# EAGLE library part JETSON-TX2 (library FaBo-Connetor)
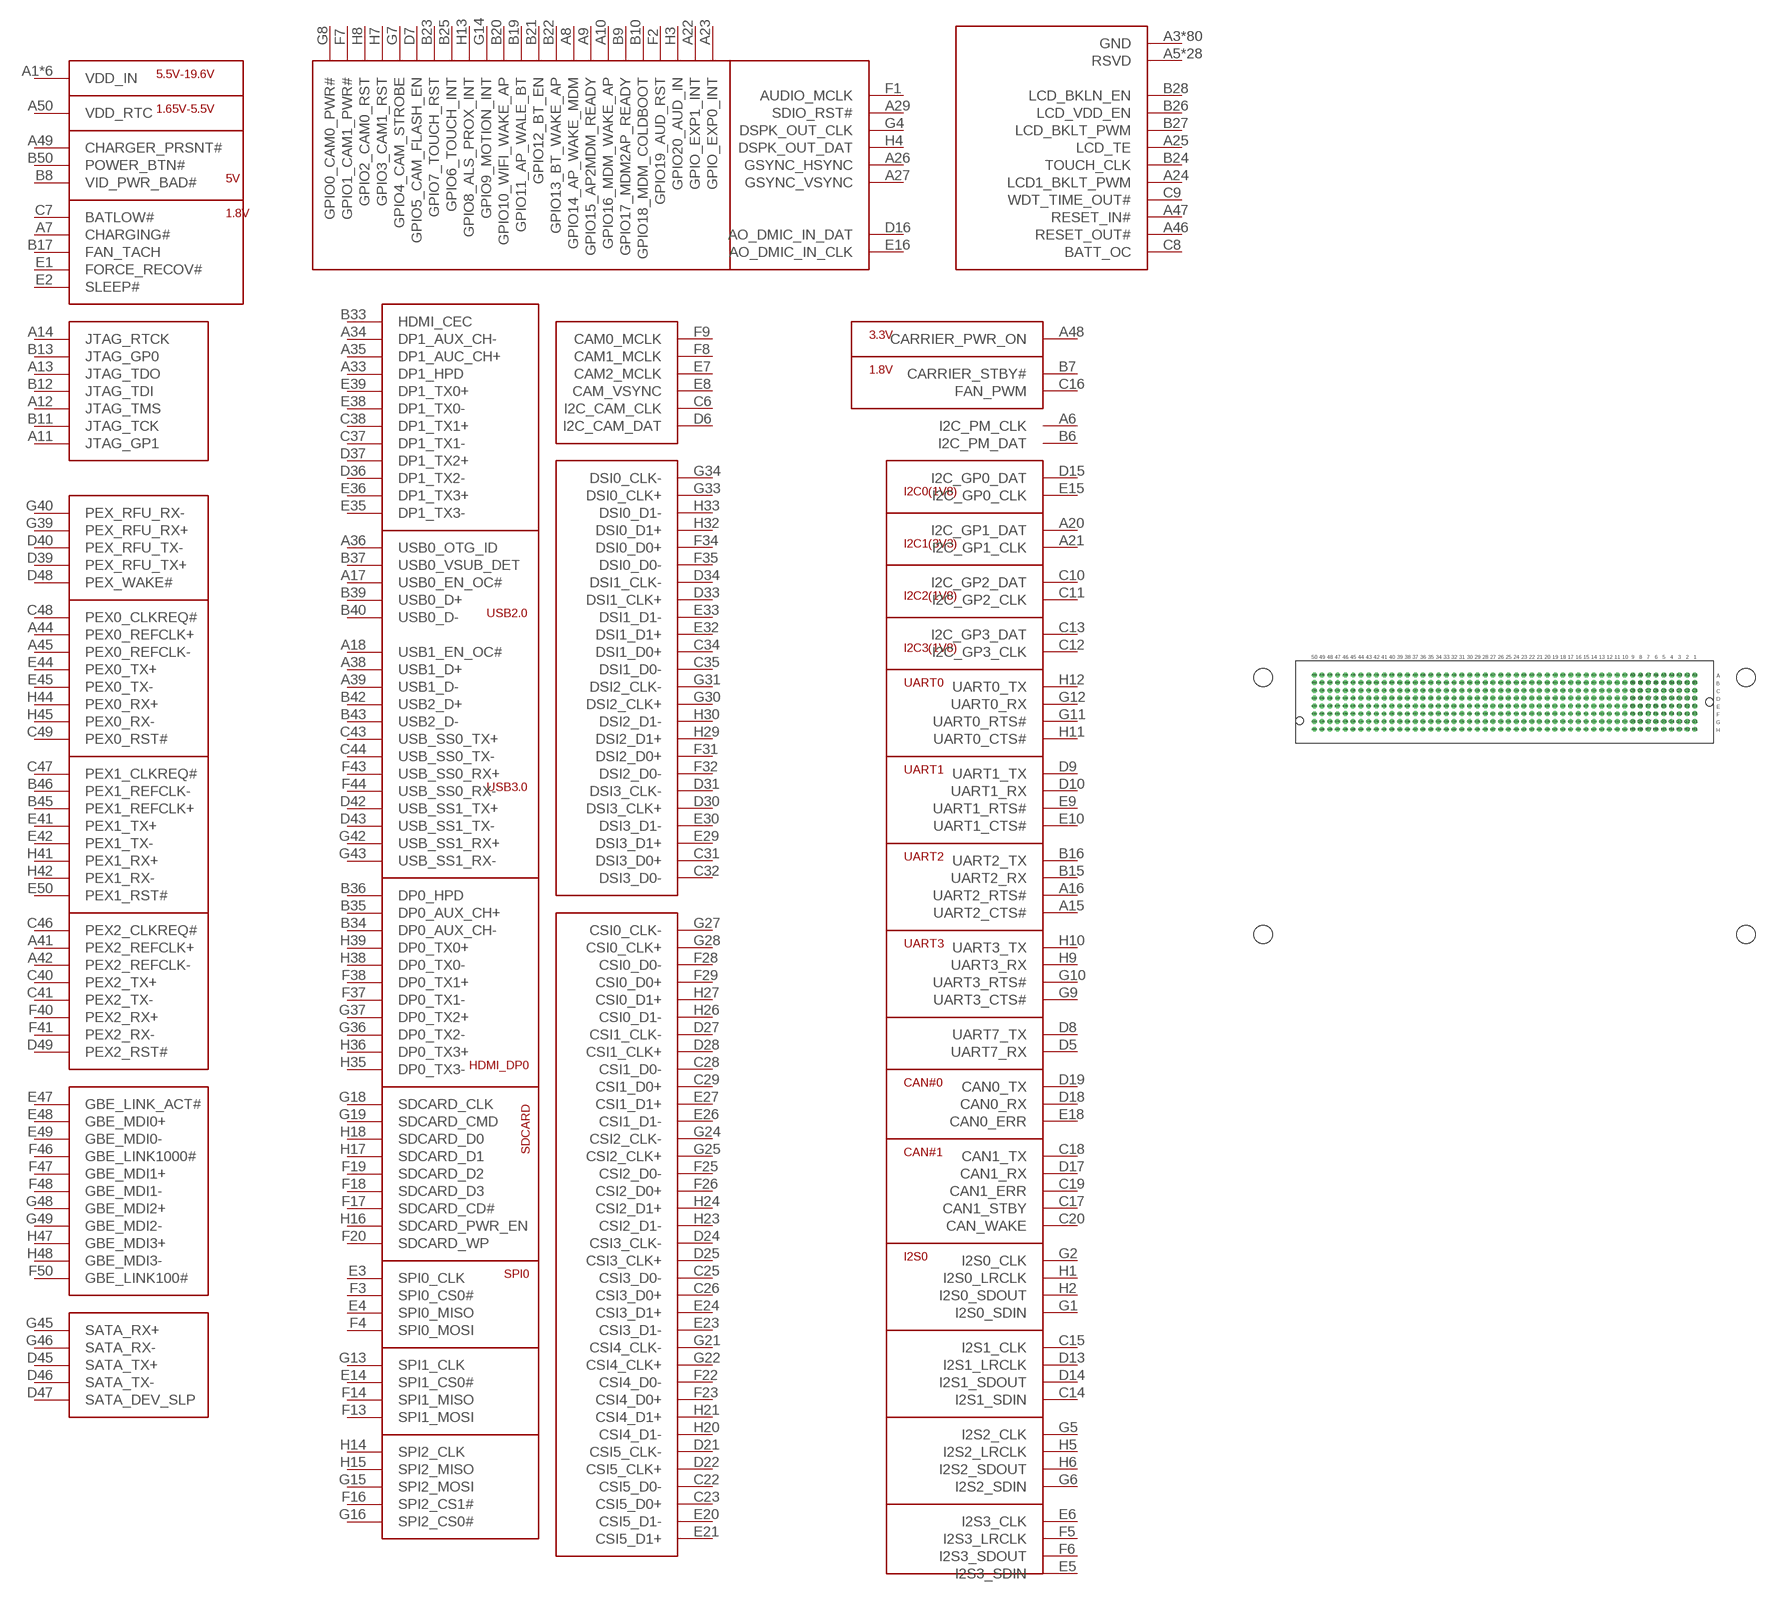
[diagram p0: symbol with the pads of SEAM-50-02.0-S-08-2-A-K-TR-ND; footprint SEAM-50-02.0-S-08-2-A-K-TR-ND]

Designator prefix CN

## JETSON-TX2  [SEAM-50-02.0-S-08-2-A-K-TR-ND]
A1  VDD_IN
A2  VDD_IN
A3  GND
A4  GND
A5  RSVD
A6  I2C_PM_CLK
A7  CHARGING#
A8  GPIO14_AP_WAKE_MDM
A9  GPIO15_AP2MDM_READY
A10  GPIO16_MDM_WAKE_AP
A11  JTAG_GP1
A12  JTAG_TMS
A13  JTAG_TDO
A14  JTAG_RTCK
A15  UART2_CTS#
A16  UART2_RTS#
A17  USB0_EN_OC#
A18  USB1_EN_OC#
A19  RSVD
A20  I2C_GP1_DAT
A21  I2C_GP1_CLK
A22  GPIO_EXP1_INT
A23  GPIO_EXP0_INT
A24  LCD1_BKLT_PWM
A25  LCD_TE
A26  GSYNC_HSYNC
A27  GSYNC_VSYNC
A28  GND
A29  SDIO_RST#
A30  RSVD
A31  RSVD
A32  RSVD
A33  DP1_HPD
A34  DP1_AUX_CH-
A35  DP1_AUC_CH+
A36  USB0_OTG_ID
A37  GND
A38  USB1_D+
A39  USB1_D-
A40  GND
A41  PEX2_REFCLK+
A42  PEX2_REFCLK-
A43  GND
A44  PEX0_REFCLK+
A45  PEX0_REFCLK-
A46  RESET_OUT#
A47  RESET_IN#
A48  CARRIER_PWR_ON
A49  CHARGER_PRSNT#
A50  VDD_RTC
B1  VDD_IN
B2  VDD_IN
B3  GND
B4  GND
B5  RSVD
B6  I2C_PM_DAT
B7  CARRIER_STBY#
B8  VID_PWR_BAD#
B9  GPIO17_MDM2AP_READY
B10  GPIO18_MDM_COLDBOOT
B11  JTAG_TCK
B12  JTAG_TDI
B13  JTAG_GP0
B14  GND
B15  UART2_RX
B16  UART2_TX
B17  FAN_TACH
B18  RSVD
B19  GPIO11_AP_WALE_BT
B20  GPIO10_WIFI_WAKE_AP
B21  GPIO12_BT_EN
B22  GPIO13_BT_WAKE_AP
B23  GPIO7_TOUCH_RST
B24  TOUCH_CLK
B25  GPIO6_TOUCH_INT
B26  LCD_VDD_EN
B27  LCD_BKLT_PWM
B28  LCD_BKLN_EN
B29  RSVD
B30  RSVD
B31  GND
B32  RSVD
B33  HDMI_CEC
B34  DP0_AUX_CH-
B35  DP0_AUX_CH+
B36  DP0_HPD
B37  USB0_VSUB_DET
B38  GND
B39  USB0_D+
B40  USB0_D-
B41  GND
B42  USB2_D+
B43  USB2_D-
B44  GND
B45  PEX1_REFCLK+
B46  PEX1_REFCLK-
B47  GND
B48  RSVD
B49  RSVD
B50  POWER_BTN#
C1  VDD_IN
C2  VDD_IN
C3  GND
C4  GND
C5  RSVD
C6  I2C_CAM_CLK
C7  BATLOW#
C8  BATT_OC
C9  WDT_TIME_OUT#
C10  I2C_GP2_DAT
C11  I2C_GP2_CLK
C12  I2C_GP3_CLK
C13  I2C_GP3_DAT
C14  I2S1_SDIN
C15  I2S1_CLK
C16  FAN_PWM
C17  CAN1_STBY
C18  CAN1_TX
C19  CAN1_ERR
C20  CAN_WAKE
C21  GND
C22  CSI5_D0-
C23  CSI5_D0+
C24  GND
C25  CSI3_D0-
C26  CSI3_D0+
C27  GND
C28  CSI1_D0-
C29  CSI1_D0+
C30  GND
C31  DSI3_D0+
C32  DSI3_D0-
C33  GND
C34  DSI1_D0+
C35  DSI1_D0-
C36  GND
C37  DP1_TX1-
C38  DP1_TX1+
C39  GND
C40  PEX2_TX+
C41  PEX2_TX-
C42  GND
C43  USB_SS0_TX+
C44  USB_SS0_TX-
C45  GND
C46  PEX2_CLKREQ#
C47  PEX1_CLKREQ#
C48  PEX0_CLKREQ#
C49  PEX0_RST#
C50  RSVD
D1  RSVD
D2  RSVD
D3  RSVD
D4  RSVD
D5  UART7_RX
D6  I2C_CAM_DAT
D7  GPIO5_CAM_FLASH_EN
D8  UART7_TX
D9  UART1_TX
D10  UART1_RX
D11  RSVD
D12  RSVD
D13  I2S1_LRCLK
D14  I2S1_SDOUT
D15  I2C_GP0_DAT
D16  AO_DMIC_IN_DAT
D17  CAN1_RX
D18  CAN0_RX
D19  CAN0_TX
D20  GND
D21  CSI5_CLK-
D22  CSI5_CLK+
D23  GND
D24  CSI3_CLK-
D25  CSI3_CLK+
D26  GND
D27  CSI1_CLK-
D28  CSI1_CLK+
D29  GND
D30  DSI3_CLK+
D31  DSI3_CLK-
D32  GND
D33  DSI1_CLK+
D34  DSI1_CLK-
D35  GND
D36  DP1_TX2-
D37  DP1_TX2+
D38  GND
D39  PEX_RFU_TX+
D40  PEX_RFU_TX-
D41  GND
D42  USB_SS1_TX+
D43  USB_SS1_TX-
D44  GND
D45  SATA_TX+
D46  SATA_TX-
D47  SATA_DEV_SLP
D48  PEX_WAKE#
D49  PEX2_RST#
D50  RSVD
E1  FORCE_RECOV#
E2  SLEEP#
E3  SPI0_CLK
E4  SPI0_MISO
E5  I2S3_SDIN
E6  I2S3_CLK
E7  CAM2_MCLK
E8  CAM_VSYNC
E9  UART1_RTS#
E10  UART1_CTS#
E11  RSVD
E12  RSVD
E13  RSVD
E14  SPI1_CS0#
E15  I2C_GP0_CLK
E16  AO_DMIC_IN_CLK
E17  RSVD
E18  CAN0_ERR
E19  GND
E20  CSI5_D1-
E21  CSI5_D1+
E22  GND
E23  CSI3_D1-
E24  CSI3_D1+
E25  GND
E26  CSI1_D1-
E27  CSI1_D1+
E28  GND
E29  DSI3_D1+
E30  DSI3_D1-
E31  GND
E32  DSI1_D1+
E33  DSI1_D1-
E34  GND
E35  DP1_TX3-
E36  DP1_TX3+
E37  GND
E38  DP1_TX0-
E39  DP1_TX0+
E40  GND
E41  PEX1_TX+
E42  PEX1_TX-
E43  GND
E44  PEX0_TX+
E45  PEX0_TX-
E46  GND
E47  GBE_LINK_ACT#
E48  GBE_MDI0+
E49  GBE_MDI0-
E50  PEX1_RST#
F1  AUDIO_MCLK
F2  GPIO19_AUD_RST
F3  SPI0_CS0#
F4  SPI0_MOSI
F5  I2S3_LRCLK
F6  I2S3_SDOUT
F7  GPIO1_CAM1_PWR#
F8  CAM1_MCLK
F9  CAM0_MCLK
F10  GND
F11  RSVD
F12  RSVD
F13  SPI1_MOSI
F14  SPI1_MISO
F15  GND
F16  SPI2_CS1#
F17  SDCARD_CD#
F18  SDCARD_D3
F19  SDCARD_D2
F20  SDCARD_WP
F21  GND
F22  CSI4_D0-
F23  CSI4_D0+
F24  GND
F25  CSI2_D0-
F26  CSI2_D0+
F27  GND
F28  CSI0_D0-
F29  CSI0_D0+
F30  GND
F31  DSI2_D0+
F32  DSI2_D0-
F33  GND
F34  DSI0_D0+
F35  DSI0_D0-
F36  GND
F37  DP0_TX1-
F38  DP0_TX1+
F39  GND
F40  PEX2_RX+
F41  PEX2_RX-
F42  GND
F43  USB_SS0_RX+
F44  USB_SS0_RX-
F45  GND
F46  GBE_LINK1000#
F47  GBE_MDI1+
F48  GBE_MDI1-
F49  GND
F50  GBE_LINK100#
G1  I2S0_SDIN
G2  I2S0_CLK
G3  GND
G4  DSPK_OUT_CLK
G5  I2S2_CLK
G6  I2S2_SDIN
G7  GPIO4_CAM_STROBE
G8  GPIO0_CAM0_PWR#
G9  UART3_CTS#
G10  UART3_RTS#
G11  UART0_RTS#
G12  UART0_RX
G13  SPI1_CLK
G14  GPIO9_MOTION_INT
G15  SPI2_MOSI
G16  SPI2_CS0#
G17  GND
G18  SDCARD_CLK
G19  SDCARD_CMD
G20  GND
G21  CSI4_CLK-
G22  CSI4_CLK+
G23  GND
G24  CSI2_CLK-
G25  CSI2_CLK+
G26  GND
G27  CSI0_CLK-
G28  CSI0_CLK+
G29  GND
G30  DSI2_CLK+
G31  DSI2_CLK-
G32  GND
G33  DSI0_CLK+
G34  DSI0_CLK-
G35  GND
G36  DP0_TX2-
G37  DP0_TX2+
G38  GND
G39  PEX_RFU_RX+
G40  PEX_RFU_RX-
G41  GND
G42  USB_SS1_RX+
G43  USB_SS1_RX-
G44  GND
G45  SATA_RX+
G46  SATA_RX-
G47  GND
G48  GBE_MDI2+
G49  GBE_MDI2-
G50  GND
H1  I2S0_LRCLK
H2  I2S0_SDOUT
H3  GPIO20_AUD_IN
H4  DSPK_OUT_DAT
H5  I2S2_LRCLK
H6  I2S2_SDOUT
H7  GPIO3_CAM1_RST
H8  GPIO2_CAM0_RST
H9  UART3_RX
H10  UART3_TX
H11  UART0_CTS#
H12  UART0_TX
H13  GPIO8_ALS_PROX_INT
H14  SPI2_CLK
H15  SPI2_MISO
H16  SDCARD_PWR_EN
H17  SDCARD_D1
H18  SDCARD_D0
H19  GND
H20  CSI4_D1-
H21  CSI4_D1+
H22  GND
H23  CSI2_D1-
H24  CSI2_D1+
H25  GND
H26  CSI0_D1-
H27  CSI0_D1+
H28  GND
H29  DSI2_D1+
H30  DSI2_D1-
H31  GND
H32  DSI0_D1+
H33  DSI0_D1-
H34  GND
H35  DP0_TX3-
H36  DP0_TX3+
H37  GND
H38  DP0_TX0-
H39  DP0_TX0+
H40  GND
H41  PEX1_RX+
H42  PEX1_RX-
H43  GND
H44  PEX0_RX+
H45  PEX0_RX-
H46  GND
H47  GBE_MDI3+
H48  GBE_MDI3-
H49  GND
H50  RSVD

## Footprint SEAM-50-02.0-S-08-2-A-K-TR-ND (pad centres in mm)
drill 0.3 pad 0.65: A1 31.12,4.445; A2 29.847,4.44; A3 28.575,4.44; A4 27.31,4.445; A5 26.037,4.44; A6 24.765,4.44; A7 23.5,4.445; A8 22.227,4.44; A9 20.955,4.44; A10 19.69,4.445; A11 18.417,4.44; A12 17.145,4.44; A13 15.88,4.445; A14 14.607,4.44; A15 13.335,4.44; A16 12.07,4.445; A17 10.797,4.44; A18 9.525,4.44; A19 8.26,4.445; A20 6.987,4.44; A21 5.715,4.44; A22 4.45,4.445; A23 3.177,4.44; A24 1.905,4.44; A25 0.64,4.445; A26 -0.633,4.44; A27 -1.905,4.44; A28 -3.17,4.445; A29 -4.443,4.44; A30 -5.715,4.44; A31 -6.98,4.445; A32 -8.253,4.44; A33 -9.525,4.44; A34 -10.79,4.445; A35 -12.063,4.44; A36 -13.335,4.44; A37 -14.6,4.445; A38 -15.873,4.44; A39 -17.145,4.44; A40 -18.41,4.445; A41 -19.683,4.44; A42 -20.955,4.44; A43 -22.22,4.445; A44 -23.493,4.44; A45 -24.765,4.44; A46 -26.03,4.445; A47 -27.303,4.44; A48 -28.575,4.44; A49 -29.843,4.44; A50 -31.115,4.44; B1 31.12,3.175; B2 29.847,3.17; B3 28.575,3.17; B4 27.31,3.175; B5 26.037,3.17; B6 24.765,3.17; B7 23.5,3.175; B8 22.227,3.17; B9 20.955,3.17; B10 19.69,3.175; B11 18.417,3.17; B12 17.145,3.17; B13 15.88,3.175; B14 14.607,3.17; B15 13.335,3.17; B16 12.07,3.175; B17 10.797,3.17; B18 9.525,3.17; B19 8.26,3.175; B20 6.987,3.17; B21 5.715,3.17; B22 4.45,3.175; B23 3.177,3.17; B24 1.905,3.17; B25 0.64,3.175; B26 -0.633,3.17; B27 -1.905,3.17; B28 -3.17,3.175; B29 -4.443,3.17; B30 -5.715,3.17; B31 -6.98,3.175; B32 -8.253,3.17; B33 -9.525,3.17; B34 -10.79,3.175; B35 -12.063,3.17; B36 -13.335,3.17; B37 -14.6,3.175; B38 -15.873,3.17; B39 -17.145,3.17; B40 -18.41,3.175; B41 -19.683,3.17; B42 -20.955,3.17; B43 -22.22,3.175; B44 -23.493,3.17; B45 -24.765,3.17; B46 -26.03,3.175; B47 -27.303,3.17; B48 -28.575,3.17; B49 -29.843,3.17; B50 -31.115,3.17; C1 31.11,1.905; C2 29.837,1.9; C3 28.565,1.9; C4 27.3,1.905; C5 26.027,1.9; C6 24.755,1.9; C7 23.49,1.905; C8 22.217,1.9; C9 20.945,1.9; C10 19.68,1.905; C11 18.407,1.9; C12 17.135,1.9; C13 15.87,1.905; C14 14.597,1.9; C15 13.325,1.9; C16 12.06,1.905; C17 10.787,1.9; C18 9.515,1.9; C19 8.25,1.905; C20 6.977,1.9; C21 5.705,1.9; C22 4.44,1.905; C23 3.167,1.9; C24 1.895,1.9; C25 0.63,1.905; C26 -0.643,1.9; C27 -1.915,1.9; C28 -3.18,1.905; C29 -4.453,1.9; C30 -5.725,1.9; C31 -6.99,1.905; C32 -8.263,1.9; C33 -9.535,1.9; C34 -10.8,1.905; C35 -12.073,1.9; C36 -13.345,1.9; C37 -14.61,1.905; C38 -15.883,1.9; C39 -17.155,1.9; C40 -18.42,1.905; C41 -19.693,1.9; C42 -20.965,1.9; C43 -22.23,1.905; C44 -23.503,1.9; C45 -24.775,1.9; C46 -26.04,1.905; C47 -27.313,1.9; C48 -28.585,1.9; C49 -29.853,1.9; C50 -31.125,1.9; D1 31.12,0.635; D2 29.847,0.63; D3 28.575,0.63; D4 27.31,0.635; D5 26.037,0.63; D6 24.765,0.63; D7 23.5,0.635; D8 22.227,0.63; D9 20.955,0.63; D10 19.69,0.635; D11 18.417,0.63; D12 17.145,0.63; D13 15.88,0.635; D14 14.607,0.63; D15 13.335,0.63; D16 12.07,0.635; D17 10.797,0.63; D18 9.525,0.63; D19 8.26,0.635; D20 6.987,0.63; D21 5.715,0.63; D22 4.45,0.635; D23 3.177,0.63; D24 1.905,0.63; D25 0.64,0.635; D26 -0.633,0.63; D27 -1.905,0.63; D28 -3.17,0.635; D29 -4.443,0.63; D30 -5.715,0.63; D31 -6.98,0.635; D32 -8.253,0.63; D33 -9.525,0.63; D34 -10.79,0.635; D35 -12.063,0.63; D36 -13.335,0.63; D37 -14.6,0.635; D38 -15.873,0.63; D39 -17.145,0.63; D40 -18.41,0.635; D41 -19.683,0.63; D42 -20.955,0.63; D43 -22.22,0.635; D44 -23.493,0.63; D45 -24.765,0.63; D46 -26.03,0.635; D47 -27.303,0.63; D48 -28.575,0.63; D49 -29.843,0.63; D50 -31.115,0.63; E1 31.11,-0.635; E2 29.837,-0.64; E3 28.565,-0.64; E4 27.3,-0.635; E5 26.027,-0.64; E6 24.755,-0.64; E7 23.49,-0.635; E8 22.217,-0.64; E9 20.945,-0.64; E10 19.68,-0.635; E11 18.407,-0.64; E12 17.135,-0.64; E13 15.87,-0.635; E14 14.597,-0.64; E15 13.325,-0.64; E16 12.06,-0.635; E17 10.787,-0.64; E18 9.515,-0.64; E19 8.25,-0.635; E20 6.977,-0.64; E21 5.705,-0.64; E22 4.44,-0.635; E23 3.167,-0.64; E24 1.895,-0.64; E25 0.63,-0.635; E26 -0.643,-0.64; E27 -1.915,-0.64; E28 -3.18,-0.635; E29 -4.453,-0.64; E30 -5.725,-0.64; E31 -6.99,-0.635; E32 -8.263,-0.64; E33 -9.535,-0.64; E34 -10.8,-0.635; E35 -12.073,-0.64; E36 -13.345,-0.64; E37 -14.61,-0.635; E38 -15.883,-0.64; E39 -17.155,-0.64; E40 -18.42,-0.635; E41 -19.693,-0.64; E42 -20.965,-0.64; E43 -22.23,-0.635; E44 -23.503,-0.64; E45 -24.775,-0.64; E46 -26.04,-0.635; E47 -27.313,-0.64; E48 -28.585,-0.64; E49 -29.853,-0.64; E50 -31.125,-0.64; F1 31.11,-1.905; F2 29.837,-1.91; F3 28.565,-1.91; F4 27.3,-1.905; F5 26.027,-1.91; F6 24.755,-1.91; F7 23.49,-1.905; F8 22.217,-1.91; F9 20.945,-1.91; F10 19.68,-1.905; F11 18.407,-1.91; F12 17.135,-1.91; F13 15.87,-1.905; F14 14.597,-1.91; F15 13.325,-1.91; F16 12.06,-1.905; F17 10.787,-1.91; F18 9.515,-1.91; F19 8.25,-1.905; F20 6.977,-1.91; F21 5.705,-1.91; F22 4.44,-1.905; F23 3.167,-1.91; F24 1.895,-1.91; F25 0.63,-1.905; F26 -0.643,-1.91; F27 -1.915,-1.91; F28 -3.18,-1.905; F29 -4.453,-1.91; F30 -5.725,-1.91; F31 -6.99,-1.905; F32 -8.263,-1.91; F33 -9.535,-1.91; F34 -10.8,-1.905; F35 -12.073,-1.91; F36 -13.345,-1.91; F37 -14.61,-1.905; F38 -15.883,-1.91; F39 -17.155,-1.91; F40 -18.42,-1.905; F41 -19.693,-1.91; F42 -20.965,-1.91; F43 -22.23,-1.905; F44 -23.503,-1.91; F45 -24.775,-1.91; F46 -26.04,-1.905; F47 -27.313,-1.91; F48 -28.585,-1.91; F49 -29.853,-1.91; F50 -31.125,-1.91; G1 31.11,-3.175; G2 29.837,-3.18; G3 28.565,-3.18; G4 27.3,-3.175; G5 26.027,-3.18; G6 24.755,-3.18; G7 23.49,-3.175; G8 22.217,-3.18; G9 20.945,-3.18; G10 19.68,-3.175; G11 18.407,-3.18; G12 17.135,-3.18; G13 15.87,-3.175; G14 14.597,-3.18; G15 13.325,-3.18; G16 12.06,-3.175; G17 10.787,-3.18; G18 9.515,-3.18; G19 8.25,-3.175; G20 6.977,-3.18; G21 5.705,-3.18; G22 4.44,-3.175; G23 3.167,-3.18; G24 1.895,-3.18; G25 0.63,-3.175; G26 -0.643,-3.18; G27 -1.915,-3.18; G28 -3.18,-3.175; G29 -4.453,-3.18; G30 -5.725,-3.18; G31 -6.99,-3.175; G32 -8.263,-3.18; G33 -9.535,-3.18; G34 -10.8,-3.175; G35 -12.073,-3.18; G36 -13.345,-3.18; G37 -14.61,-3.175; G38 -15.883,-3.18; G39 -17.155,-3.18; G40 -18.42,-3.175; G41 -19.693,-3.18; G42 -20.965,-3.18; G43 -22.23,-3.175; G44 -23.503,-3.18; G45 -24.775,-3.18; G46 -26.04,-3.175; G47 -27.313,-3.18; G48 -28.585,-3.18; G49 -29.853,-3.18; G50 -31.125,-3.18; H1 31.11,-4.445; H2 29.837,-4.45; H3 28.565,-4.45; H4 27.3,-4.445; H5 26.027,-4.45; H6 24.755,-4.45; H7 23.49,-4.445; H8 22.217,-4.45; H9 20.945,-4.45; H10 19.68,-4.445; H11 18.407,-4.45; H12 17.135,-4.45; H13 15.87,-4.445; H14 14.597,-4.45; H15 13.325,-4.45; H16 12.06,-4.445; H17 10.787,-4.45; H18 9.515,-4.45; H19 8.25,-4.445; H20 6.977,-4.45; H21 5.705,-4.45; H22 4.44,-4.445; H23 3.167,-4.45; H24 1.895,-4.45; H25 0.63,-4.445; H26 -0.643,-4.45; H27 -1.915,-4.45; H28 -3.18,-4.445; H29 -4.453,-4.45; H30 -5.725,-4.45; H31 -6.99,-4.445; H32 -8.263,-4.45; H33 -9.535,-4.45; H34 -10.8,-4.445; H35 -12.073,-4.45; H36 -13.345,-4.45; H37 -14.61,-4.445; H38 -15.883,-4.45; H39 -17.155,-4.45; H40 -18.42,-4.445; H41 -19.693,-4.45; H42 -20.965,-4.45; H43 -22.23,-4.445; H44 -23.503,-4.45; H45 -24.775,-4.45; H46 -26.04,-4.445; H47 -27.313,-4.45; H48 -28.585,-4.45; H49 -29.853,-4.45; H50 -31.125,-4.45
hole 1.27 at 33.52,0
hole 1.27 at -33.52,-3.05
hole 3 at -39.5,-38
hole 3 at 39.5,-38
hole 3 at -39.5,4
hole 3 at 39.5,4